# Altium footprint library laser.PcbLib: 1 footprints
Each footprint in its own frame and in the unit in brackets; x right, y up, seen from the top. Pads: shape width x height; smd on the part's side, far side on the other; paste and mask are expansions set on the pad; w line width, h text height; cw(c..) or ccw(c..) is an arc to the next point about the centre after c.
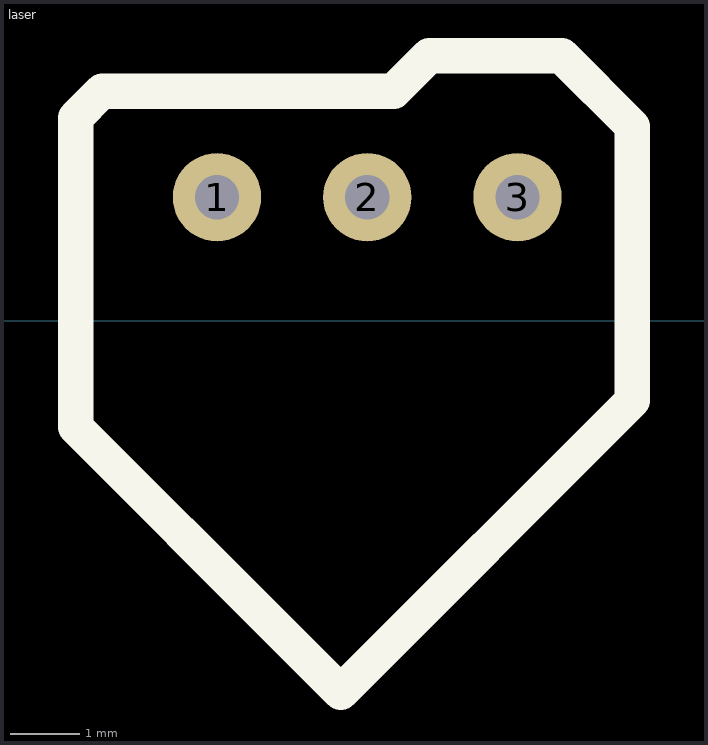
[diagram p0: the footprint, top view; thin cyan lines are the x and y axes]

## laser [mil]
pads (3):
  round 50 hole 25: 1(405,70) 2(490,70) 3(575,70)
Top Overlay:
  lines w20: 325,-60 442.5,-177.5 475,-210 640,-45 640,110 600,150 525,150 505,130 340,130 325,115 325,-60
3D body "?????? ??????.STEP": height 59.06, standoff -314.96, extent 153.82,-662.75 756.18,390.4